# EAGLE library part LM234DT (library ST Microelctronics_By_element14_Batch_1)
Three terminal adjustable current sources
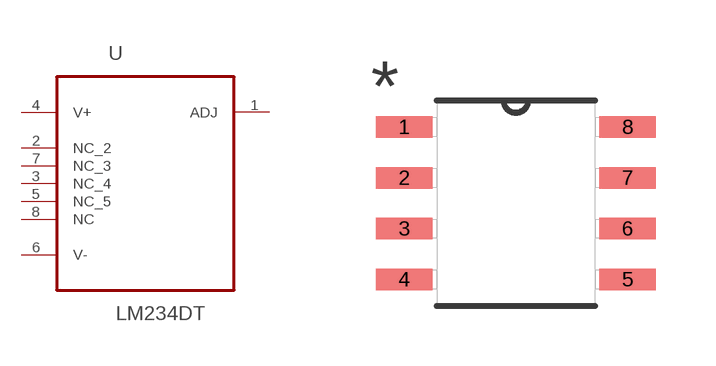
[diagram p94: symbol with the pads of SOIC127P600X175-8N; footprint SOIC127P600X175-8N]

Designator prefix U

## LM234DT (MPN: LM234DT; OC_FARNELL: 1467822; OC_NEWARK: 89K1294; PACKAGE: SOIC-8; SUPPLIER: STMICROELECTRONICS)  [SOIC127P600X175-8N]
1  ADJ  in
2  NC_2  nc
3  NC_4  nc
4  V+  pwr
5  NC_5  nc
6  V-  pwr
7  NC_3  nc
8  NC  nc

## Footprint SOIC127P600X175-8N (pad centres in mm)
smd 1.422 x 0.533: 1 -2.794,1.905; 2 -2.794,0.635; 3 -2.794,-0.635; 4 -2.794,-1.905; 5 2.794,-1.905; 6 2.794,-0.635; 7 2.794,0.635; 8 2.794,1.905